# Altium schematic symbol library kmilo17pet-NSC_Interface.SchLib: 1433 symbols (part 29 of 51)
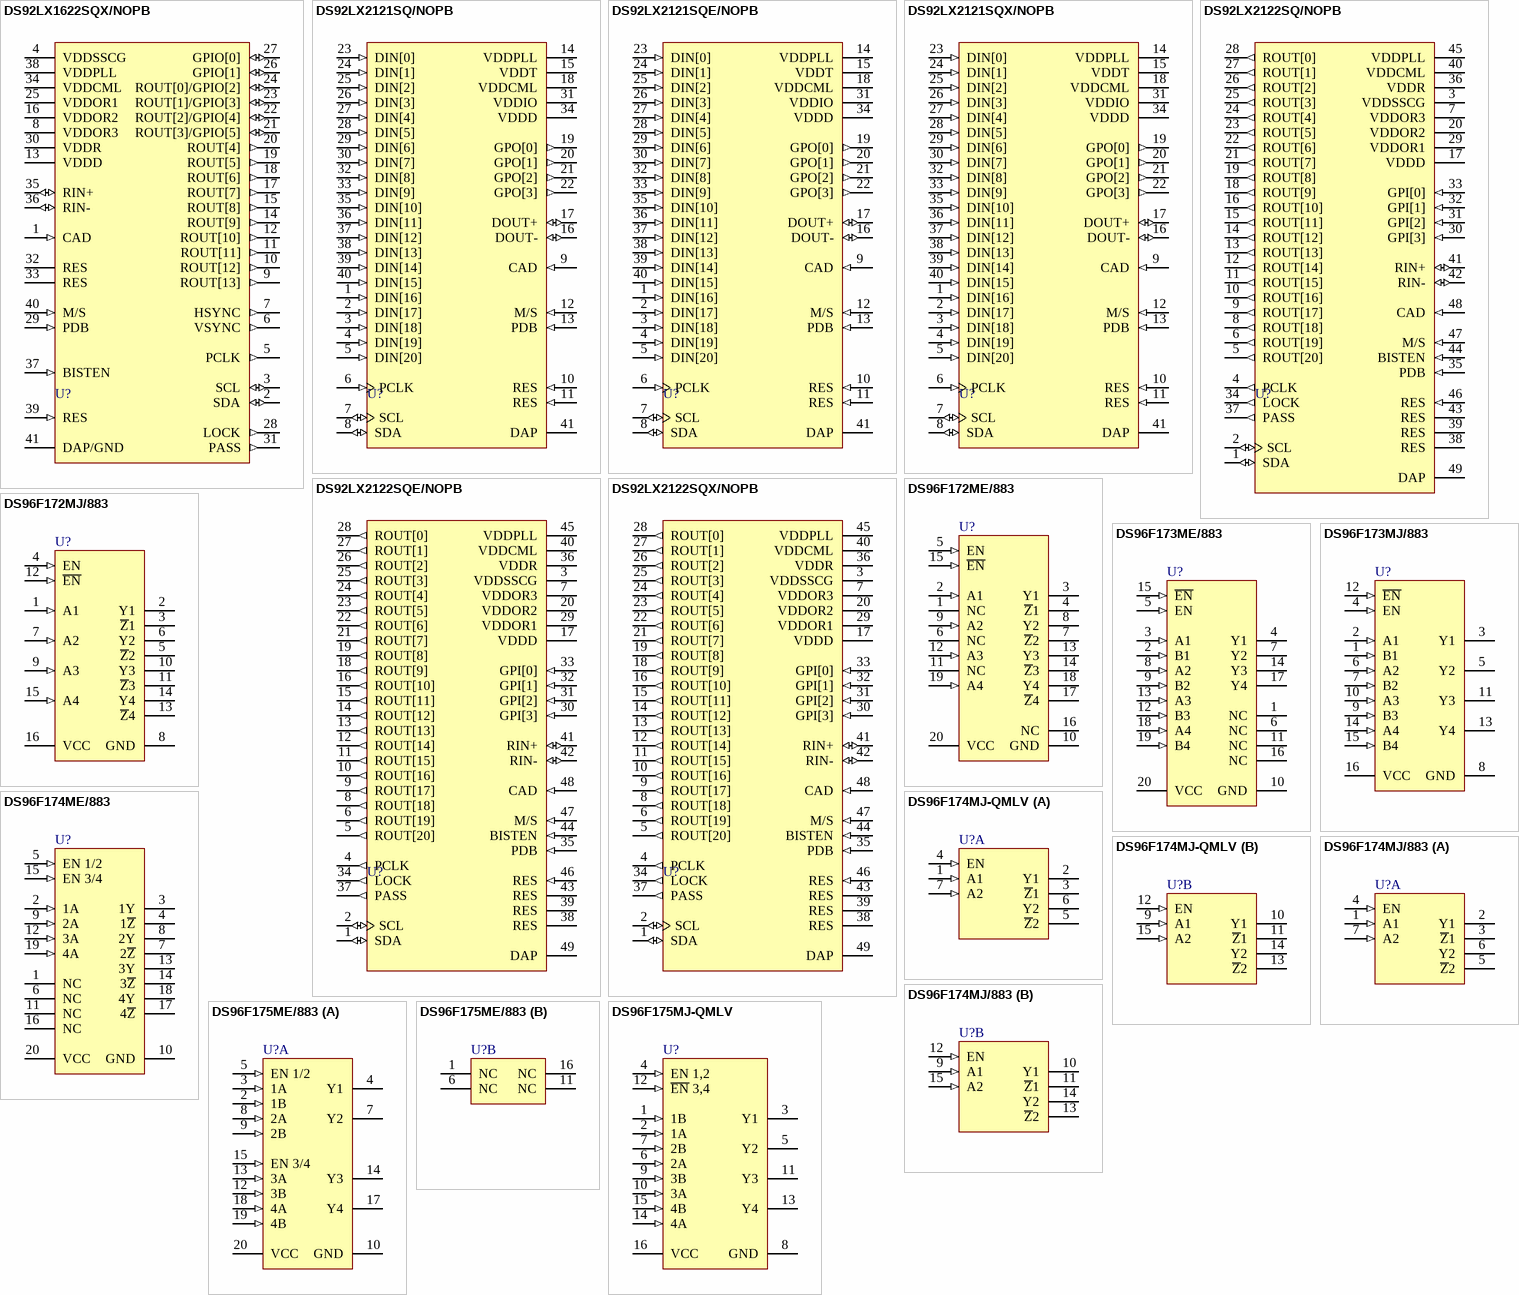
[diagram p152: symbols DS92LX1622SQX/NOPB to DS96F175MJ-QMLV]

## DS96F174MJ-QMLV
designator U?
EIA-485/EIA-422 Quad Differential Drivers, 16-pin CerDIP; PartNumber: DS96F174MJ-QMLV; Manufacturer: National Semiconductor; PowerWise: N; CompType: Interface IC; High-Reliability: Y; DatasheetVersion: Apr-2011; PackageVersion: revL, Sep-1993; PackageReference: J16A; PackageDescription: Cerdip (J), 16 Lead; PinCount: 16; ComponentLink1Description: Manufacturer URL; ComponentLink1URL: http://www.national.com/; ComponentLink2Description: DS96F174M Datasheet; ComponentLink2URL: http://www.national.com/ds/DS/DS96F174MQML.pdf; ComponentLink3Description: DS96F174M Web Page; ComponentLink3URL: http://www.national.com/pf/DS/DS96F174M.html; ComponentLink4Description: J16A Package Page; ComponentLink4URL: http://www.national.com/packaging/folders/j16a.html
footprint J16A (DIP, 16-Leads, Row Spacing 7.62mm, Pitch 2.54mm, Body 19.56x6.73mm)
pins on every part: 8 GND (power) hidden to GND, 16 VCC (power) hidden to VCC
part A pins: 1 A1 (in), 2 Y1 (hiz), 3 ~{Z}1 (hiz), 4 EN (in), 5 ~{Z}2 (hiz), 6 Y2 (hiz), 7 A2 (in)
part B pins: 9 A1 (in), 10 Y1 (hiz), 11 ~{Z}1 (hiz), 12 EN (in), 13 ~{Z}2 (hiz), 14 Y2 (hiz), 15 A2 (in)

## DS96F174MJ/883
designator U?
EIA-485/EIA-422 Quad Differential Driver, 16-pin CerDIP; PartNumber: DS96F174MJ/883; Manufacturer: National Semiconductor; PowerWise: N; CompType: Interface IC; High-Reliability: Y; DatasheetVersion: Apr-2011; PackageVersion: revL, Sep-1993; PackageReference: J16A; PackageDescription: Cerdip (J), 16 Lead; PinCount: 16; ComponentLink1Description: Manufacturer URL; ComponentLink1URL: http://www.national.com/; ComponentLink2Description: DS96F174M Datasheet; ComponentLink2URL: http://www.national.com/ds/DS/DS96F174MQML.pdf; ComponentLink3Description: DS96F174M Web Page; ComponentLink3URL: http://www.national.com/pf/DS/DS96F174M.html; ComponentLink4Description: J16A Package Page; ComponentLink4URL: http://www.national.com/packaging/folders/j16a.html
footprint J16A (DIP, 16-Leads, Row Spacing 7.62mm, Pitch 2.54mm, Body 19.56x6.73mm)
pins on every part: 8 GND (power) hidden to GND, 16 VCC (power) hidden to VCC
part A pins: 1 A1 (in), 2 Y1 (hiz), 3 ~{Z}1 (hiz), 4 EN (in), 5 ~{Z}2 (hiz), 6 Y2 (hiz), 7 A2 (in)
part B pins: 9 A1 (in), 10 Y1 (hiz), 11 ~{Z}1 (hiz), 12 EN (in), 13 ~{Z}2 (hiz), 14 Y2 (hiz), 15 A2 (in)

## DS96F175ME/883
designator U?
EIA-485/EIA-422 Quad Differential Receiver, 20-pin LCC; PartNumber: DS96F175ME/883; Manufacturer: National Semiconductor; PackageTopMarking: NS*ZSSXXYYA*DS96F175ME*/883 Q 5962-*9076601M2A; PowerWise: N; CompType: Interface IC; High-Reliability: Y; DatasheetVersion: Apr-2011; PackageVersion: revF, May-2004; PackageReference: E20A; PackageDescription: Leadless Chip Carrier, Type C, 20 Terminal; RoHS: N; PinCount: 20; Code_JEDEC: MS-004-CB; ComponentLink1Description: Manufacturer URL; ComponentLink1URL: http://www.national.com/; ComponentLink2Description: DS96F175M Datasheet; ComponentLink2URL: http://www.national.com/ds/DS/DS96F175MQML.pdf; ComponentLink3Description: DS96F175M Web Page; ComponentLink3URL: http://www.national.com/pf/DS/DS96F175M.html; ComponentLink4Description: E20A Package Page; ComponentLink4URL: http://www.national.com/packaging/folders/e20a.html
footprint E20A_N (Leadless Chip Carrier, 20-Leads, Body 8.9x8.9mm, Pitch 1.27mm, IPC Medium Density)
footprint E20A_L (Leadless Chip Carrier, 20-Leads, Body 8.9x8.9mm, Pitch 1.27mm, IPC High Density)
footprint E20A_M (Leadless Chip Carrier, 20-Leads, Body 8.9x8.9mm, Pitch 1.27mm, IPC Low Density)
part A pins: 2 1B (in), 3 1A (in), 4 Y1 (hiz), 5 EN 1/2 (in), 7 Y2 (hiz), 8 2A (in), 9 2B (in), 10 GND (power), 12 3B (in), 13 3A (in), 14 Y3 (hiz), 15 EN 3/4 (in), 17 Y4 (hiz), 18 4A (in), 19 4B (in), 20 VCC (power)
part B pins: 1 NC, 6 NC, 11 NC, 16 NC

## DS96F175MJ-QMLV
designator U?
RS-485/RS-422 Quad Differential Receiver, 16-pin CerDIP; PartNumber: DS96F175MJ-QMLV; Manufacturer: National Semiconductor; PowerWise: N; CompType: Interface IC; High-Reliability: Y; DatasheetVersion: Apr-2011; PackageVersion: revL, Sep-1993; PackageReference: J16A; PackageDescription: Cerdip (J), 16 Lead; PinCount: 16; ComponentLink1Description: Manufacturer URL; ComponentLink1URL: http://www.national.com/; ComponentLink2Description: DS96F175M Datasheet; ComponentLink2URL: http://www.national.com/ds/DS/DS96F175MQML.pdf; ComponentLink3Description: DS96F175M Web Page; ComponentLink3URL: http://www.national.com/pf/DS/DS96F175M.html; ComponentLink4Description: J16A Package Page; ComponentLink4URL: http://www.national.com/packaging/folders/j16a.html
footprint J16A (DIP, 16-Leads, Row Spacing 7.62mm, Pitch 2.54mm, Body 19.56x6.73mm)
pins: 1 1B (in), 2 1A (in), 3 Y1 (hiz), 4 EN 1,2 (in), 5 Y2 (hiz), 6 2A (in), 7 2B (in), 8 GND (power), 9 3B (in), 10 3A (in), 11 Y3 (hiz), 12 ~{EN} 3,4 (in), 13 Y4 (hiz), 14 4A (in), 15 4B (in), 16 VCC (power)

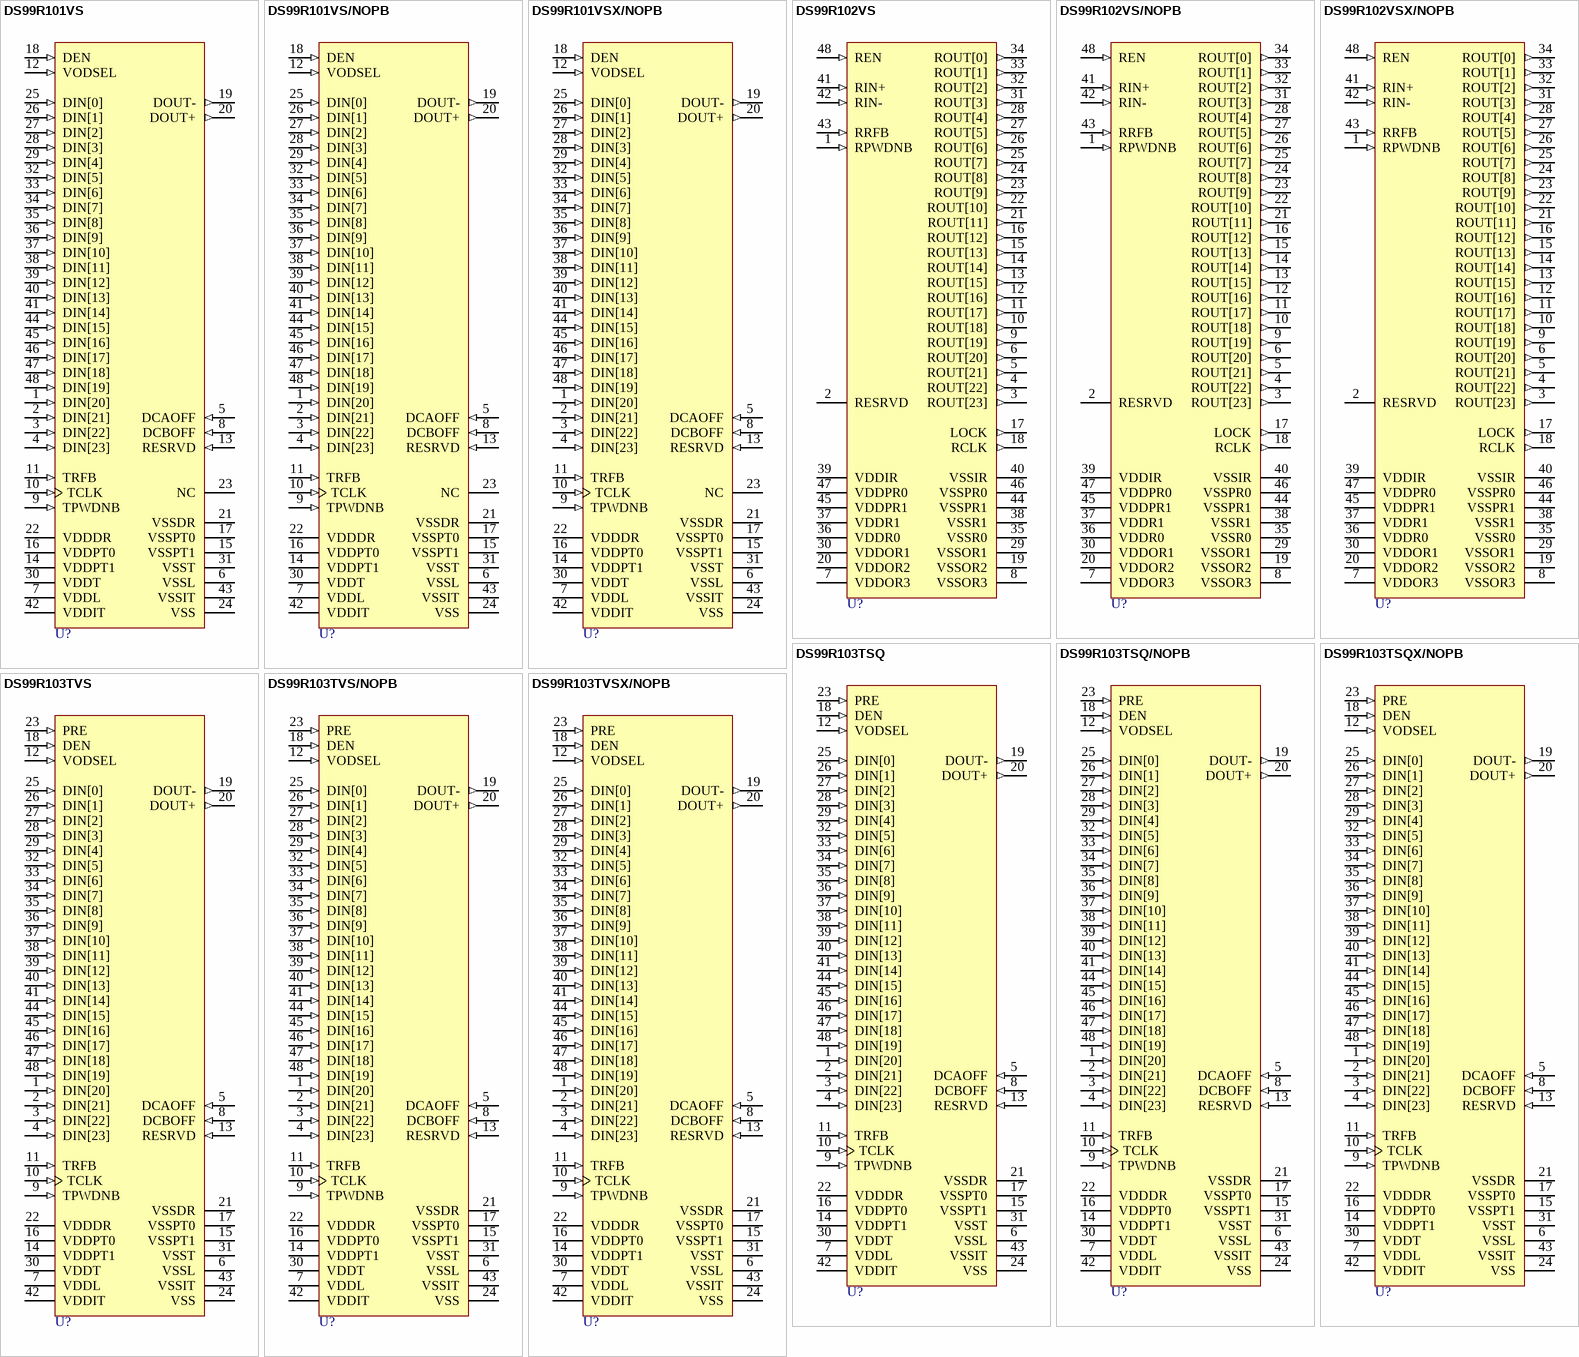
[diagram p76: symbols DS99R101VS to DS99R103TVSX/NOPB]

## DS99R101VS
designator U?
3-40MHz DC-Balanced 24-Bit LVDS Serializer, 48-pin TQFP; PartNumber: DS99R101VS; Manufacturer: National Semiconductor; PackageTopMarking: NSUZXYTT*DS99R101*VS; PowerWise: N; CompType: Interface IC; High-Reliability: Y; DatasheetVersion: Oct-2007; PackageVersion: revA, Apr-2000; PackageReference: VBC48A; PackageDescription: TQFP, Jedec Metric, 7 x 7 x 1mm, 48 Lead, 0.5mm Pitch; RoHS: Y; PinCount: 48; Code_JEDEC: MS-026-ABC; ComponentLink1Description: Manufacturer URL; ComponentLink1URL: http://www.national.com/; ComponentLink2Description: DS99R101 Datasheet; ComponentLink2URL: http://www.national.com/ds/DS/DS99R101.pdf; ComponentLink3Description: DS99R101 Web Page; ComponentLink3URL: http://www.national.com/pf/DS/DS99R101.html; ComponentLink4Description: VBC48A Package Page; ComponentLink4URL: http://www.national.com/packaging/folders/vbc48a.html
footprint VBC48A_N (Thin QFP, 48-Leads, Body 7x7mm, Pitch 0.5mm, IPC Medium Density)
footprint VBC48A_L (Thin QFP, 48-Leads, Body 7x7mm, Pitch 0.5mm, IPC High Density)
footprint VBC48A_M (Thin QFP, 48-Leads, Body 7x7mm, Pitch 0.5mm, IPC Low Density)
pins: 1 DIN[20] (in), 2 DIN[21] (in), 3 DIN[22] (in), 4 DIN[23] (in), 5 DCAOFF (in), 6 VSSL (power), 7 VDDL (power), 8 DCBOFF (in), 9 TPWDNB (in), 10 TCLK (in), 11 TRFB (in), 12 VODSEL (in), 13 RESRVD (in), 14 VDDPT1 (power), 15 VSSPT1 (power), 16 VDDPT0 (power), 17 VSSPT0 (power), 18 DEN (in), 19 DOUT- (out), 20 DOUT+ (out), 21 VSSDR (power), 22 VDDDR (power), 23 NC, 24 VSS (power), 25 DIN[0] (in), 26 DIN[1] (in), 27 DIN[2] (in), 28 DIN[3] (in), 29 DIN[4] (in), 30 VDDT (power), 31 VSST (power), 32 DIN[5] (in), 33 DIN[6] (in), 34 DIN[7] (in), 35 DIN[8] (in), 36 DIN[9] (in), 37 DIN[10] (in), 38 DIN[11] (in), 39 DIN[12] (in), 40 DIN[13] (in), 41 DIN[14] (in), 42 VDDIT (power), 43 VSSIT (power), 44 DIN[15] (in), 45 DIN[16] (in), 46 DIN[17] (in), 47 DIN[18] (in), 48 DIN[19] (in)

## DS99R101VS/NOPB
designator U?
3-40MHz DC-Balanced 24-Bit LVDS Serializer, 48-pin TQFP, Pb-Free; PartNumber: DS99R101VS/NOPB; Manufacturer: National Semiconductor; PackageTopMarking: NSUZXYTT*DS99R101*VS; PowerWise: N; CompType: Interface IC; High-Reliability: Y; DatasheetVersion: Oct-2007; PackageVersion: revA, Apr-2000; PackageReference: VBC48A; PackageDescription: TQFP, Jedec Metric, 7 x 7 x 1mm, 48 Lead, 0.5mm Pitch; RoHS: Y; PinCount: 48; Code_JEDEC: MS-026-ABC; ComponentLink1Description: Manufacturer URL; ComponentLink1URL: http://www.national.com/; ComponentLink2Description: DS99R101 Datasheet; ComponentLink2URL: http://www.national.com/ds/DS/DS99R101.pdf; ComponentLink3Description: DS99R101 Web Page; ComponentLink3URL: http://www.national.com/pf/DS/DS99R101.html; ComponentLink4Description: VBC48A Package Page; ComponentLink4URL: http://www.national.com/packaging/folders/vbc48a.html
footprint VBC48A_N (Thin QFP, 48-Leads, Body 7x7mm, Pitch 0.5mm, IPC Medium Density)
footprint VBC48A_L (Thin QFP, 48-Leads, Body 7x7mm, Pitch 0.5mm, IPC High Density)
footprint VBC48A_M (Thin QFP, 48-Leads, Body 7x7mm, Pitch 0.5mm, IPC Low Density)
pins: 1 DIN[20] (in), 2 DIN[21] (in), 3 DIN[22] (in), 4 DIN[23] (in), 5 DCAOFF (in), 6 VSSL (power), 7 VDDL (power), 8 DCBOFF (in), 9 TPWDNB (in), 10 TCLK (in), 11 TRFB (in), 12 VODSEL (in), 13 RESRVD (in), 14 VDDPT1 (power), 15 VSSPT1 (power), 16 VDDPT0 (power), 17 VSSPT0 (power), 18 DEN (in), 19 DOUT- (out), 20 DOUT+ (out), 21 VSSDR (power), 22 VDDDR (power), 23 NC, 24 VSS (power), 25 DIN[0] (in), 26 DIN[1] (in), 27 DIN[2] (in), 28 DIN[3] (in), 29 DIN[4] (in), 30 VDDT (power), 31 VSST (power), 32 DIN[5] (in), 33 DIN[6] (in), 34 DIN[7] (in), 35 DIN[8] (in), 36 DIN[9] (in), 37 DIN[10] (in), 38 DIN[11] (in), 39 DIN[12] (in), 40 DIN[13] (in), 41 DIN[14] (in), 42 VDDIT (power), 43 VSSIT (power), 44 DIN[15] (in), 45 DIN[16] (in), 46 DIN[17] (in), 47 DIN[18] (in), 48 DIN[19] (in)

## DS99R101VSX/NOPB
designator U?
3-40MHz DC-Balanced 24-Bit LVDS Serializer, 48-pin TQFP, Pb-Free; PartNumber: DS99R101VSX/NOPB; Manufacturer: National Semiconductor; PackageTopMarking: NSUZXYTT*DS99R101*VS; PowerWise: N; CompType: Interface IC; High-Reliability: Y; DatasheetVersion: Oct-2007; PackageVersion: revA, Apr-2000; PackageReference: VBC48A; PackageDescription: TQFP, Jedec Metric, 7 x 7 x 1mm, 48 Lead, 0.5mm Pitch; RoHS: Y; PinCount: 48; Code_JEDEC: MS-026-ABC; ComponentLink1Description: Manufacturer URL; ComponentLink1URL: http://www.national.com/; ComponentLink2Description: DS99R101 Datasheet; ComponentLink2URL: http://www.national.com/ds/DS/DS99R101.pdf; ComponentLink3Description: DS99R101 Web Page; ComponentLink3URL: http://www.national.com/pf/DS/DS99R101.html; ComponentLink4Description: VBC48A Package Page; ComponentLink4URL: http://www.national.com/packaging/folders/vbc48a.html
footprint VBC48A_N (Thin QFP, 48-Leads, Body 7x7mm, Pitch 0.5mm, IPC Medium Density)
footprint VBC48A_L (Thin QFP, 48-Leads, Body 7x7mm, Pitch 0.5mm, IPC High Density)
footprint VBC48A_M (Thin QFP, 48-Leads, Body 7x7mm, Pitch 0.5mm, IPC Low Density)
pins: 1 DIN[20] (in), 2 DIN[21] (in), 3 DIN[22] (in), 4 DIN[23] (in), 5 DCAOFF (in), 6 VSSL (power), 7 VDDL (power), 8 DCBOFF (in), 9 TPWDNB (in), 10 TCLK (in), 11 TRFB (in), 12 VODSEL (in), 13 RESRVD (in), 14 VDDPT1 (power), 15 VSSPT1 (power), 16 VDDPT0 (power), 17 VSSPT0 (power), 18 DEN (in), 19 DOUT- (out), 20 DOUT+ (out), 21 VSSDR (power), 22 VDDDR (power), 23 NC, 24 VSS (power), 25 DIN[0] (in), 26 DIN[1] (in), 27 DIN[2] (in), 28 DIN[3] (in), 29 DIN[4] (in), 30 VDDT (power), 31 VSST (power), 32 DIN[5] (in), 33 DIN[6] (in), 34 DIN[7] (in), 35 DIN[8] (in), 36 DIN[9] (in), 37 DIN[10] (in), 38 DIN[11] (in), 39 DIN[12] (in), 40 DIN[13] (in), 41 DIN[14] (in), 42 VDDIT (power), 43 VSSIT (power), 44 DIN[15] (in), 45 DIN[16] (in), 46 DIN[17] (in), 47 DIN[18] (in), 48 DIN[19] (in)

## DS99R102VS
designator U?
3-40MHz DC-Balanced 24-Bit LVDS Deserializer, 48-pin TQFP; PartNumber: DS99R102VS; Manufacturer: National Semiconductor; PackageTopMarking: NSUZXYTT*DS99R102*VS; PowerWise: N; CompType: Interface IC; High-Reliability: Y; DatasheetVersion: Oct-2007; PackageVersion: revA, Apr-2000; PackageReference: VBC48A; PackageDescription: TQFP, Jedec Metric, 7 x 7 x 1mm, 48 Lead, 0.5mm Pitch; RoHS: Y; PinCount: 48; Code_JEDEC: MS-026-ABC; ComponentLink1Description: Manufacturer URL; ComponentLink1URL: http://www.national.com/; ComponentLink2Description: DS99R102 Datasheet; ComponentLink2URL: http://www.national.com/ds/DS/DS99R102.pdf; ComponentLink3Description: DS99R102 Web Page; ComponentLink3URL: http://www.national.com/pf/DS/DS99R102.html; ComponentLink4Description: VBC48A Package Page; ComponentLink4URL: http://www.national.com/packaging/folders/vbc48a.html
footprint VBC48A_N (Thin QFP, 48-Leads, Body 7x7mm, Pitch 0.5mm, IPC Medium Density)
footprint VBC48A_L (Thin QFP, 48-Leads, Body 7x7mm, Pitch 0.5mm, IPC High Density)
footprint VBC48A_M (Thin QFP, 48-Leads, Body 7x7mm, Pitch 0.5mm, IPC Low Density)
pins: 1 RPWDNB (in), 2 RESRVD, 3 ROUT[23] (out), 4 ROUT[22] (out), 5 ROUT[21] (out), 6 ROUT[20] (out), 7 VDDOR3 (power), 8 VSSOR3 (power), 9 ROUT[19] (out), 10 ROUT[18] (out), 11 ROUT[17] (out), 12 ROUT[16] (out), 13 ROUT[15] (out), 14 ROUT[14] (out), 15 ROUT[13] (out), 16 ROUT[12] (out), 17 LOCK (out), 18 RCLK (out), 19 VSSOR2 (power), 20 VDDOR2 (power), 21 ROUT[11] (out), 22 ROUT[10] (out), 23 ROUT[9] (out), 24 ROUT[8] (out), 25 ROUT[7] (out), 26 ROUT[6] (out), 27 ROUT[5] (out), 28 ROUT[4] (out), 29 VSSOR1 (power), 30 VDDOR1 (power), 31 ROUT[3] (out), 32 ROUT[2] (out), 33 ROUT[1] (out), 34 ROUT[0] (out), 35 VSSR0 (power), 36 VDDR0 (power), 37 VDDR1 (power), 38 VSSR1 (power), 39 VDDIR (power), 40 VSSIR (power), 41 RIN+ (in), 42 RIN- (in), 43 RRFB (in), 44 VSSPR1 (power), 45 VDDPR1 (power), 46 VSSPR0 (power), 47 VDDPR0 (power), 48 REN (in)

## DS99R102VS/NOPB
designator U?
3-40MHz DC-Balanced 24-Bit LVDS Deserializer, 48-pin TQFP, Pb-Free; PartNumber: DS99R102VS/NOPB; Manufacturer: National Semiconductor; PackageTopMarking: NSUZXYTT*DS99R102*VS; PowerWise: N; CompType: Interface IC; High-Reliability: Y; DatasheetVersion: Oct-2007; PackageVersion: revA, Apr-2000; PackageReference: VBC48A; PackageDescription: TQFP, Jedec Metric, 7 x 7 x 1mm, 48 Lead, 0.5mm Pitch; RoHS: Y; PinCount: 48; Code_JEDEC: MS-026-ABC; ComponentLink1Description: Manufacturer URL; ComponentLink1URL: http://www.national.com/; ComponentLink2Description: DS99R102 Datasheet; ComponentLink2URL: http://www.national.com/ds/DS/DS99R102.pdf; ComponentLink3Description: DS99R102 Web Page; ComponentLink3URL: http://www.national.com/pf/DS/DS99R102.html; ComponentLink4Description: VBC48A Package Page; ComponentLink4URL: http://www.national.com/packaging/folders/vbc48a.html
footprint VBC48A_N (Thin QFP, 48-Leads, Body 7x7mm, Pitch 0.5mm, IPC Medium Density)
footprint VBC48A_L (Thin QFP, 48-Leads, Body 7x7mm, Pitch 0.5mm, IPC High Density)
footprint VBC48A_M (Thin QFP, 48-Leads, Body 7x7mm, Pitch 0.5mm, IPC Low Density)
pins: 1 RPWDNB (in), 2 RESRVD, 3 ROUT[23] (out), 4 ROUT[22] (out), 5 ROUT[21] (out), 6 ROUT[20] (out), 7 VDDOR3 (power), 8 VSSOR3 (power), 9 ROUT[19] (out), 10 ROUT[18] (out), 11 ROUT[17] (out), 12 ROUT[16] (out), 13 ROUT[15] (out), 14 ROUT[14] (out), 15 ROUT[13] (out), 16 ROUT[12] (out), 17 LOCK (out), 18 RCLK (out), 19 VSSOR2 (power), 20 VDDOR2 (power), 21 ROUT[11] (out), 22 ROUT[10] (out), 23 ROUT[9] (out), 24 ROUT[8] (out), 25 ROUT[7] (out), 26 ROUT[6] (out), 27 ROUT[5] (out), 28 ROUT[4] (out), 29 VSSOR1 (power), 30 VDDOR1 (power), 31 ROUT[3] (out), 32 ROUT[2] (out), 33 ROUT[1] (out), 34 ROUT[0] (out), 35 VSSR0 (power), 36 VDDR0 (power), 37 VDDR1 (power), 38 VSSR1 (power), 39 VDDIR (power), 40 VSSIR (power), 41 RIN+ (in), 42 RIN- (in), 43 RRFB (in), 44 VSSPR1 (power), 45 VDDPR1 (power), 46 VSSPR0 (power), 47 VDDPR0 (power), 48 REN (in)

## DS99R102VSX/NOPB
designator U?
3-40MHz DC-Balanced 24-Bit LVDS Deserializer, 48-pin TQFP, Pb-Free; PartNumber: DS99R102VSX/NOPB; Manufacturer: National Semiconductor; PackageTopMarking: NSUZXYTT*DS99R102*VS; PowerWise: N; CompType: Interface IC; High-Reliability: Y; DatasheetVersion: Oct-2007; PackageVersion: revA, Apr-2000; PackageReference: VBC48A; PackageDescription: TQFP, Jedec Metric, 7 x 7 x 1mm, 48 Lead, 0.5mm Pitch; RoHS: Y; PinCount: 48; Code_JEDEC: MS-026-ABC; ComponentLink1Description: Manufacturer URL; ComponentLink1URL: http://www.national.com/; ComponentLink2Description: DS99R102 Datasheet; ComponentLink2URL: http://www.national.com/ds/DS/DS99R102.pdf; ComponentLink3Description: DS99R102 Web Page; ComponentLink3URL: http://www.national.com/pf/DS/DS99R102.html; ComponentLink4Description: VBC48A Package Page; ComponentLink4URL: http://www.national.com/packaging/folders/vbc48a.html
footprint VBC48A_N (Thin QFP, 48-Leads, Body 7x7mm, Pitch 0.5mm, IPC Medium Density)
footprint VBC48A_L (Thin QFP, 48-Leads, Body 7x7mm, Pitch 0.5mm, IPC High Density)
footprint VBC48A_M (Thin QFP, 48-Leads, Body 7x7mm, Pitch 0.5mm, IPC Low Density)
pins: 1 RPWDNB (in), 2 RESRVD, 3 ROUT[23] (out), 4 ROUT[22] (out), 5 ROUT[21] (out), 6 ROUT[20] (out), 7 VDDOR3 (power), 8 VSSOR3 (power), 9 ROUT[19] (out), 10 ROUT[18] (out), 11 ROUT[17] (out), 12 ROUT[16] (out), 13 ROUT[15] (out), 14 ROUT[14] (out), 15 ROUT[13] (out), 16 ROUT[12] (out), 17 LOCK (out), 18 RCLK (out), 19 VSSOR2 (power), 20 VDDOR2 (power), 21 ROUT[11] (out), 22 ROUT[10] (out), 23 ROUT[9] (out), 24 ROUT[8] (out), 25 ROUT[7] (out), 26 ROUT[6] (out), 27 ROUT[5] (out), 28 ROUT[4] (out), 29 VSSOR1 (power), 30 VDDOR1 (power), 31 ROUT[3] (out), 32 ROUT[2] (out), 33 ROUT[1] (out), 34 ROUT[0] (out), 35 VSSR0 (power), 36 VDDR0 (power), 37 VDDR1 (power), 38 VSSR1 (power), 39 VDDIR (power), 40 VSSIR (power), 41 RIN+ (in), 42 RIN- (in), 43 RRFB (in), 44 VSSPR1 (power), 45 VDDPR1 (power), 46 VSSPR0 (power), 47 VDDPR0 (power), 48 REN (in)

## DS99R103TSQ
designator U?
3-40MHz DC- Balanced 24-Bit LVDS Serializer, 48-pin LLP; PartNumber: DS99R103TSQ; Manufacturer: National Semiconductor; PackageTopMarking: NS*UZXYTT*DS99R103T; PowerWise: N; CompType: Interface IC; High-Reliability: Y; DatasheetVersion: Oct-2007; PackageVersion: revA, Jul-2004; PackageReference: SQA48D; PackageDescription: LLP, Quad, 7 x 7 x 0.8mm, 48 Lead, 0.5mm Pitch, 4.1 x 4.1 Exposed Pad; RoHS: Y; PinCount: 48; ComponentLink1Description: Manufacturer URL; ComponentLink1URL: http://www.national.com/; ComponentLink2Description: DS99R103 Datasheet; ComponentLink2URL: http://www.national.com/ds/DS/DS99R103.pdf; ComponentLink3Description: DS99R103 Web Page; ComponentLink3URL: http://www.national.com/pf/DS/DS99R103.html; ComponentLink4Description: SQA48D Package Page; ComponentLink4URL: http://www.national.com/packaging/folders/sqa48d.html
footprint SQA48D (QFN, 48-Leads, Body 7x7mm, Pitch 0.5mm, Thermal Pad 4.2x4.2mm, NSC Recommended)
pins: 1 DIN[20] (in), 2 DIN[21] (in), 3 DIN[22] (in), 4 DIN[23] (in), 5 DCAOFF (in), 6 VSSL (power), 7 VDDL (power), 8 DCBOFF (in), 9 TPWDNB (in), 10 TCLK (in), 11 TRFB (in), 12 VODSEL (in), 13 RESRVD (in), 14 VDDPT1 (power), 15 VSSPT1 (power), 16 VDDPT0 (power), 17 VSSPT0 (power), 18 DEN (in), 19 DOUT- (out), 20 DOUT+ (out), 21 VSSDR (power), 22 VDDDR (power), 23 PRE (in), 24 VSS (power), 25 DIN[0] (in), 26 DIN[1] (in), 27 DIN[2] (in), 28 DIN[3] (in), 29 DIN[4] (in), 30 VDDT (power), 31 VSST (power), 32 DIN[5] (in), 33 DIN[6] (in), 34 DIN[7] (in), 35 DIN[8] (in), 36 DIN[9] (in), 37 DIN[10] (in), 38 DIN[11] (in), 39 DIN[12] (in), 40 DIN[13] (in), 41 DIN[14] (in), 42 VDDIT (power), 43 VSSIT (power), 44 DIN[15] (in), 45 DIN[16] (in), 46 DIN[17] (in), 47 DIN[18] (in), 48 DIN[19] (in)

## DS99R103TSQ/NOPB
designator U?
3-40MHz DC- Balanced 24-Bit LVDS Serializer, 48-pin LLP, Pb-Free; PartNumber: DS99R103TSQ/NOPB; Manufacturer: National Semiconductor; PackageTopMarking: NS*UZXYTTE#*DS99R103T; PowerWise: N; CompType: Interface IC; High-Reliability: Y; DatasheetVersion: Oct-2007; PackageVersion: revA, Jul-2004; PackageReference: SQA48D; PackageDescription: LLP, Quad, 7 x 7 x 0.8mm, 48 Lead, 0.5mm Pitch, 4.1 x 4.1 Exposed Pad; RoHS: Y; PinCount: 48; ComponentLink1Description: Manufacturer URL; ComponentLink1URL: http://www.national.com/; ComponentLink2Description: DS99R103 Datasheet; ComponentLink2URL: http://www.national.com/ds/DS/DS99R103.pdf; ComponentLink3Description: DS99R103 Web Page; ComponentLink3URL: http://www.national.com/pf/DS/DS99R103.html; ComponentLink4Description: SQA48D Package Page; ComponentLink4URL: http://www.national.com/packaging/folders/sqa48d.html
footprint SQA48D (QFN, 48-Leads, Body 7x7mm, Pitch 0.5mm, Thermal Pad 4.2x4.2mm, NSC Recommended)
pins: 1 DIN[20] (in), 2 DIN[21] (in), 3 DIN[22] (in), 4 DIN[23] (in), 5 DCAOFF (in), 6 VSSL (power), 7 VDDL (power), 8 DCBOFF (in), 9 TPWDNB (in), 10 TCLK (in), 11 TRFB (in), 12 VODSEL (in), 13 RESRVD (in), 14 VDDPT1 (power), 15 VSSPT1 (power), 16 VDDPT0 (power), 17 VSSPT0 (power), 18 DEN (in), 19 DOUT- (out), 20 DOUT+ (out), 21 VSSDR (power), 22 VDDDR (power), 23 PRE (in), 24 VSS (power), 25 DIN[0] (in), 26 DIN[1] (in), 27 DIN[2] (in), 28 DIN[3] (in), 29 DIN[4] (in), 30 VDDT (power), 31 VSST (power), 32 DIN[5] (in), 33 DIN[6] (in), 34 DIN[7] (in), 35 DIN[8] (in), 36 DIN[9] (in), 37 DIN[10] (in), 38 DIN[11] (in), 39 DIN[12] (in), 40 DIN[13] (in), 41 DIN[14] (in), 42 VDDIT (power), 43 VSSIT (power), 44 DIN[15] (in), 45 DIN[16] (in), 46 DIN[17] (in), 47 DIN[18] (in), 48 DIN[19] (in)

## DS99R103TSQX/NOPB
designator U?
3-40MHz DC- Balanced 24-Bit LVDS Serializer, 48-pin LLP, Pb-Free; PartNumber: DS99R103TSQX/NOPB; Manufacturer: National Semiconductor; PackageTopMarking: NS*UZXYTTE#*DS99R103T; PowerWise: N; CompType: Interface IC; High-Reliability: Y; DatasheetVersion: Oct-2007; PackageVersion: revA, Jul-2004; PackageReference: SQA48D; PackageDescription: LLP, Quad, 7 x 7 x 0.8mm, 48 Lead, 0.5mm Pitch, 4.1 x 4.1 Exposed Pad; RoHS: Y; PinCount: 48; ComponentLink1Description: Manufacturer URL; ComponentLink1URL: http://www.national.com/; ComponentLink2Description: DS99R103 Datasheet; ComponentLink2URL: http://www.national.com/ds/DS/DS99R103.pdf; ComponentLink3Description: DS99R103 Web Page; ComponentLink3URL: http://www.national.com/pf/DS/DS99R103.html; ComponentLink4Description: SQA48D Package Page; ComponentLink4URL: http://www.national.com/packaging/folders/sqa48d.html
footprint SQA48D (QFN, 48-Leads, Body 7x7mm, Pitch 0.5mm, Thermal Pad 4.2x4.2mm, NSC Recommended)
pins: 1 DIN[20] (in), 2 DIN[21] (in), 3 DIN[22] (in), 4 DIN[23] (in), 5 DCAOFF (in), 6 VSSL (power), 7 VDDL (power), 8 DCBOFF (in), 9 TPWDNB (in), 10 TCLK (in), 11 TRFB (in), 12 VODSEL (in), 13 RESRVD (in), 14 VDDPT1 (power), 15 VSSPT1 (power), 16 VDDPT0 (power), 17 VSSPT0 (power), 18 DEN (in), 19 DOUT- (out), 20 DOUT+ (out), 21 VSSDR (power), 22 VDDDR (power), 23 PRE (in), 24 VSS (power), 25 DIN[0] (in), 26 DIN[1] (in), 27 DIN[2] (in), 28 DIN[3] (in), 29 DIN[4] (in), 30 VDDT (power), 31 VSST (power), 32 DIN[5] (in), 33 DIN[6] (in), 34 DIN[7] (in), 35 DIN[8] (in), 36 DIN[9] (in), 37 DIN[10] (in), 38 DIN[11] (in), 39 DIN[12] (in), 40 DIN[13] (in), 41 DIN[14] (in), 42 VDDIT (power), 43 VSSIT (power), 44 DIN[15] (in), 45 DIN[16] (in), 46 DIN[17] (in), 47 DIN[18] (in), 48 DIN[19] (in)

## DS99R103TVS
designator U?
3-40MHz DC- Balanced 24-Bit LVDS Serializer, 48-pin TQFP; PartNumber: DS99R103TVS; Manufacturer: National Semiconductor; PackageTopMarking: NSUZXYTT*DS99R103*TVS; PowerWise: N; CompType: Interface IC; High-Reliability: Y; DatasheetVersion: Oct-2007; PackageVersion: revA, Apr-2000; PackageReference: VBC48A; PackageDescription: TQFP, Jedec Metric, 7 x 7 x 1mm, 48 Lead, 0.5mm Pitch; RoHS: Y; PinCount: 48; Code_JEDEC: MS-026-ABC; ComponentLink1Description: Manufacturer URL; ComponentLink1URL: http://www.national.com/; ComponentLink2Description: DS99R103 Datasheet; ComponentLink2URL: http://www.national.com/ds/DS/DS99R103.pdf; ComponentLink3Description: DS99R103 Web Page; ComponentLink3URL: http://www.national.com/pf/DS/DS99R103.html; ComponentLink4Description: VBC48A Package Page; ComponentLink4URL: http://www.national.com/packaging/folders/vbc48a.html
footprint VBC48A_N (Thin QFP, 48-Leads, Body 7x7mm, Pitch 0.5mm, IPC Medium Density)
footprint VBC48A_L (Thin QFP, 48-Leads, Body 7x7mm, Pitch 0.5mm, IPC High Density)
footprint VBC48A_M (Thin QFP, 48-Leads, Body 7x7mm, Pitch 0.5mm, IPC Low Density)
pins: 1 DIN[20] (in), 2 DIN[21] (in), 3 DIN[22] (in), 4 DIN[23] (in), 5 DCAOFF (in), 6 VSSL (power), 7 VDDL (power), 8 DCBOFF (in), 9 TPWDNB (in), 10 TCLK (in), 11 TRFB (in), 12 VODSEL (in), 13 RESRVD (in), 14 VDDPT1 (power), 15 VSSPT1 (power), 16 VDDPT0 (power), 17 VSSPT0 (power), 18 DEN (in), 19 DOUT- (out), 20 DOUT+ (out), 21 VSSDR (power), 22 VDDDR (power), 23 PRE (in), 24 VSS (power), 25 DIN[0] (in), 26 DIN[1] (in), 27 DIN[2] (in), 28 DIN[3] (in), 29 DIN[4] (in), 30 VDDT (power), 31 VSST (power), 32 DIN[5] (in), 33 DIN[6] (in), 34 DIN[7] (in), 35 DIN[8] (in), 36 DIN[9] (in), 37 DIN[10] (in), 38 DIN[11] (in), 39 DIN[12] (in), 40 DIN[13] (in), 41 DIN[14] (in), 42 VDDIT (power), 43 VSSIT (power), 44 DIN[15] (in), 45 DIN[16] (in), 46 DIN[17] (in), 47 DIN[18] (in), 48 DIN[19] (in)

## DS99R103TVS/NOPB
designator U?
3-40MHz DC- Balanced 24-Bit LVDS Serializer, 48-pin TQFP, Pb-Free; PartNumber: DS99R103TVS/NOPB; Manufacturer: National Semiconductor; PackageTopMarking: NSUZXYTT*DS99R103*TVS; PowerWise: N; CompType: Interface IC; High-Reliability: Y; DatasheetVersion: Oct-2007; PackageVersion: revA, Apr-2000; PackageReference: VBC48A; PackageDescription: TQFP, Jedec Metric, 7 x 7 x 1mm, 48 Lead, 0.5mm Pitch; RoHS: Y; PinCount: 48; Code_JEDEC: MS-026-ABC; ComponentLink1Description: Manufacturer URL; ComponentLink1URL: http://www.national.com/; ComponentLink2Description: DS99R103 Datasheet; ComponentLink2URL: http://www.national.com/ds/DS/DS99R103.pdf; ComponentLink3Description: DS99R103 Web Page; ComponentLink3URL: http://www.national.com/pf/DS/DS99R103.html; ComponentLink4Description: VBC48A Package Page; ComponentLink4URL: http://www.national.com/packaging/folders/vbc48a.html
footprint VBC48A_N (Thin QFP, 48-Leads, Body 7x7mm, Pitch 0.5mm, IPC Medium Density)
footprint VBC48A_L (Thin QFP, 48-Leads, Body 7x7mm, Pitch 0.5mm, IPC High Density)
footprint VBC48A_M (Thin QFP, 48-Leads, Body 7x7mm, Pitch 0.5mm, IPC Low Density)
pins: 1 DIN[20] (in), 2 DIN[21] (in), 3 DIN[22] (in), 4 DIN[23] (in), 5 DCAOFF (in), 6 VSSL (power), 7 VDDL (power), 8 DCBOFF (in), 9 TPWDNB (in), 10 TCLK (in), 11 TRFB (in), 12 VODSEL (in), 13 RESRVD (in), 14 VDDPT1 (power), 15 VSSPT1 (power), 16 VDDPT0 (power), 17 VSSPT0 (power), 18 DEN (in), 19 DOUT- (out), 20 DOUT+ (out), 21 VSSDR (power), 22 VDDDR (power), 23 PRE (in), 24 VSS (power), 25 DIN[0] (in), 26 DIN[1] (in), 27 DIN[2] (in), 28 DIN[3] (in), 29 DIN[4] (in), 30 VDDT (power), 31 VSST (power), 32 DIN[5] (in), 33 DIN[6] (in), 34 DIN[7] (in), 35 DIN[8] (in), 36 DIN[9] (in), 37 DIN[10] (in), 38 DIN[11] (in), 39 DIN[12] (in), 40 DIN[13] (in), 41 DIN[14] (in), 42 VDDIT (power), 43 VSSIT (power), 44 DIN[15] (in), 45 DIN[16] (in), 46 DIN[17] (in), 47 DIN[18] (in), 48 DIN[19] (in)

## DS99R103TVSX/NOPB
designator U?
3-40MHz DC- Balanced 24-Bit LVDS Serializer, 48-pin TQFP, Pb-Free; PartNumber: DS99R103TVSX/NOPB; Manufacturer: National Semiconductor; PackageTopMarking: NSUZXYTT*DS99R103*TVS; PowerWise: N; CompType: Interface IC; High-Reliability: Y; DatasheetVersion: Oct-2007; PackageVersion: revA, Apr-2000; PackageReference: VBC48A; PackageDescription: TQFP, Jedec Metric, 7 x 7 x 1mm, 48 Lead, 0.5mm Pitch; RoHS: Y; PinCount: 48; Code_JEDEC: MS-026-ABC; ComponentLink1Description: Manufacturer URL; ComponentLink1URL: http://www.national.com/; ComponentLink2Description: DS99R103 Datasheet; ComponentLink2URL: http://www.national.com/ds/DS/DS99R103.pdf; ComponentLink3Description: DS99R103 Web Page; ComponentLink3URL: http://www.national.com/pf/DS/DS99R103.html; ComponentLink4Description: VBC48A Package Page; ComponentLink4URL: http://www.national.com/packaging/folders/vbc48a.html
footprint VBC48A_N (Thin QFP, 48-Leads, Body 7x7mm, Pitch 0.5mm, IPC Medium Density)
footprint VBC48A_L (Thin QFP, 48-Leads, Body 7x7mm, Pitch 0.5mm, IPC High Density)
footprint VBC48A_M (Thin QFP, 48-Leads, Body 7x7mm, Pitch 0.5mm, IPC Low Density)
pins: 1 DIN[20] (in), 2 DIN[21] (in), 3 DIN[22] (in), 4 DIN[23] (in), 5 DCAOFF (in), 6 VSSL (power), 7 VDDL (power), 8 DCBOFF (in), 9 TPWDNB (in), 10 TCLK (in), 11 TRFB (in), 12 VODSEL (in), 13 RESRVD (in), 14 VDDPT1 (power), 15 VSSPT1 (power), 16 VDDPT0 (power), 17 VSSPT0 (power), 18 DEN (in), 19 DOUT- (out), 20 DOUT+ (out), 21 VSSDR (power), 22 VDDDR (power), 23 PRE (in), 24 VSS (power), 25 DIN[0] (in), 26 DIN[1] (in), 27 DIN[2] (in), 28 DIN[3] (in), 29 DIN[4] (in), 30 VDDT (power), 31 VSST (power), 32 DIN[5] (in), 33 DIN[6] (in), 34 DIN[7] (in), 35 DIN[8] (in), 36 DIN[9] (in), 37 DIN[10] (in), 38 DIN[11] (in), 39 DIN[12] (in), 40 DIN[13] (in), 41 DIN[14] (in), 42 VDDIT (power), 43 VSSIT (power), 44 DIN[15] (in), 45 DIN[16] (in), 46 DIN[17] (in), 47 DIN[18] (in), 48 DIN[19] (in)

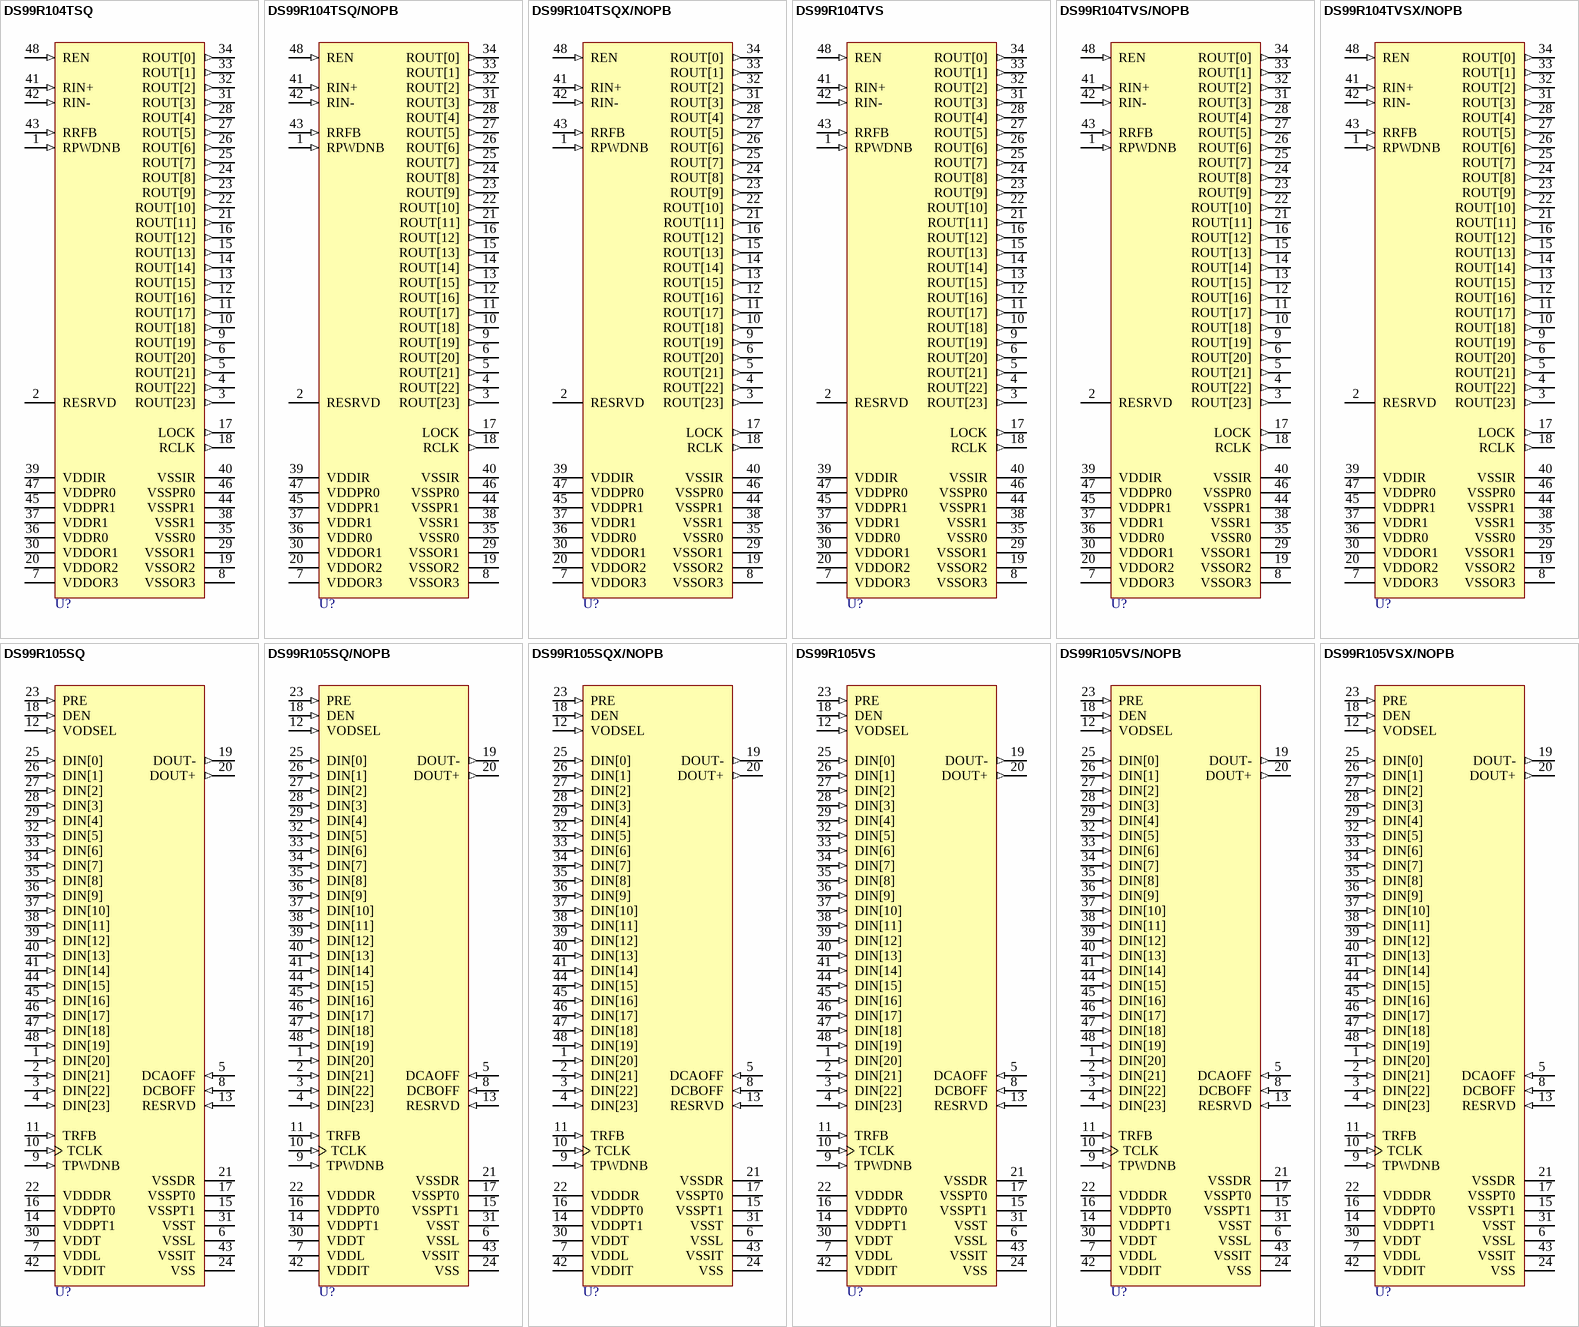
[diagram p77: symbols DS99R104TSQ to DS99R105VSX/NOPB]

## DS99R104TSQ
designator U?
3-40MHz DC- Balanced 24-Bit LVDS Deserializer, 48-pin LLP; PartNumber: DS99R104TSQ; Manufacturer: National Semiconductor; PackageTopMarking: NS*UZXYTT*DS99R104T; PowerWise: N; CompType: Interface IC; High-Reliability: Y; DatasheetVersion: Oct-2007; PackageVersion: revA, Jul-2004; PackageReference: SQA48D; PackageDescription: LLP, Quad, 7 x 7 x 0.8mm, 48 Lead, 0.5mm Pitch, 4.1 x 4.1 Exposed Pad; RoHS: Y; PinCount: 48; ComponentLink1Description: Manufacturer URL; ComponentLink1URL: http://www.national.com/; ComponentLink2Description: DS99R104 Datasheet; ComponentLink2URL: http://www.national.com/ds/DS/DS99R104.pdf; ComponentLink3Description: DS99R104 Web Page; ComponentLink3URL: http://www.national.com/pf/DS/DS99R104.html; ComponentLink4Description: SQA48D Package Page; ComponentLink4URL: http://www.national.com/packaging/folders/sqa48d.html
footprint SQA48D (QFN, 48-Leads, Body 7x7mm, Pitch 0.5mm, Thermal Pad 4.2x4.2mm, NSC Recommended)
pins: 1 RPWDNB (in), 2 RESRVD, 3 ROUT[23] (out), 4 ROUT[22] (out), 5 ROUT[21] (out), 6 ROUT[20] (out), 7 VDDOR3 (power), 8 VSSOR3 (power), 9 ROUT[19] (out), 10 ROUT[18] (out), 11 ROUT[17] (out), 12 ROUT[16] (out), 13 ROUT[15] (out), 14 ROUT[14] (out), 15 ROUT[13] (out), 16 ROUT[12] (out), 17 LOCK (out), 18 RCLK (out), 19 VSSOR2 (power), 20 VDDOR2 (power), 21 ROUT[11] (out), 22 ROUT[10] (out), 23 ROUT[9] (out), 24 ROUT[8] (out), 25 ROUT[7] (out), 26 ROUT[6] (out), 27 ROUT[5] (out), 28 ROUT[4] (out), 29 VSSOR1 (power), 30 VDDOR1 (power), 31 ROUT[3] (out), 32 ROUT[2] (out), 33 ROUT[1] (out), 34 ROUT[0] (out), 35 VSSR0 (power), 36 VDDR0 (power), 37 VDDR1 (power), 38 VSSR1 (power), 39 VDDIR (power), 40 VSSIR (power), 41 RIN+ (in), 42 RIN- (in), 43 RRFB (in), 44 VSSPR1 (power), 45 VDDPR1 (power), 46 VSSPR0 (power), 47 VDDPR0 (power), 48 REN (in)

## DS99R104TSQ/NOPB
designator U?
3-40MHz DC- Balanced 24-Bit LVDS Deserializer, 48-pin LLP, Pb-Free; PartNumber: DS99R104TSQ/NOPB; Manufacturer: National Semiconductor; PackageTopMarking: NS*UZXYTTE#*DS99R104T; PowerWise: N; CompType: Interface IC; High-Reliability: Y; DatasheetVersion: Oct-2007; PackageVersion: revA, Jul-2004; PackageReference: SQA48D; PackageDescription: LLP, Quad, 7 x 7 x 0.8mm, 48 Lead, 0.5mm Pitch, 4.1 x 4.1 Exposed Pad; RoHS: Y; PinCount: 48; ComponentLink1Description: Manufacturer URL; ComponentLink1URL: http://www.national.com/; ComponentLink2Description: DS99R104 Datasheet; ComponentLink2URL: http://www.national.com/ds/DS/DS99R104.pdf; ComponentLink3Description: DS99R104 Web Page; ComponentLink3URL: http://www.national.com/pf/DS/DS99R104.html; ComponentLink4Description: SQA48D Package Page; ComponentLink4URL: http://www.national.com/packaging/folders/sqa48d.html
footprint SQA48D (QFN, 48-Leads, Body 7x7mm, Pitch 0.5mm, Thermal Pad 4.2x4.2mm, NSC Recommended)
pins: 1 RPWDNB (in), 2 RESRVD, 3 ROUT[23] (out), 4 ROUT[22] (out), 5 ROUT[21] (out), 6 ROUT[20] (out), 7 VDDOR3 (power), 8 VSSOR3 (power), 9 ROUT[19] (out), 10 ROUT[18] (out), 11 ROUT[17] (out), 12 ROUT[16] (out), 13 ROUT[15] (out), 14 ROUT[14] (out), 15 ROUT[13] (out), 16 ROUT[12] (out), 17 LOCK (out), 18 RCLK (out), 19 VSSOR2 (power), 20 VDDOR2 (power), 21 ROUT[11] (out), 22 ROUT[10] (out), 23 ROUT[9] (out), 24 ROUT[8] (out), 25 ROUT[7] (out), 26 ROUT[6] (out), 27 ROUT[5] (out), 28 ROUT[4] (out), 29 VSSOR1 (power), 30 VDDOR1 (power), 31 ROUT[3] (out), 32 ROUT[2] (out), 33 ROUT[1] (out), 34 ROUT[0] (out), 35 VSSR0 (power), 36 VDDR0 (power), 37 VDDR1 (power), 38 VSSR1 (power), 39 VDDIR (power), 40 VSSIR (power), 41 RIN+ (in), 42 RIN- (in), 43 RRFB (in), 44 VSSPR1 (power), 45 VDDPR1 (power), 46 VSSPR0 (power), 47 VDDPR0 (power), 48 REN (in)

## DS99R104TSQX/NOPB
designator U?
3-40MHz DC- Balanced 24-Bit LVDS Deserializer, 48-pin LLP, Pb-Free; PartNumber: DS99R104TSQX/NOPB; Manufacturer: National Semiconductor; PackageTopMarking: NS*UZXYTTE#*DS99R104T; PowerWise: N; CompType: Interface IC; High-Reliability: Y; DatasheetVersion: Oct-2007; PackageVersion: revA, Jul-2004; PackageReference: SQA48D; PackageDescription: LLP, Quad, 7 x 7 x 0.8mm, 48 Lead, 0.5mm Pitch, 4.1 x 4.1 Exposed Pad; RoHS: Y; PinCount: 48; ComponentLink1Description: Manufacturer URL; ComponentLink1URL: http://www.national.com/; ComponentLink2Description: DS99R104 Datasheet; ComponentLink2URL: http://www.national.com/ds/DS/DS99R104.pdf; ComponentLink3Description: DS99R104 Web Page; ComponentLink3URL: http://www.national.com/pf/DS/DS99R104.html; ComponentLink4Description: SQA48D Package Page; ComponentLink4URL: http://www.national.com/packaging/folders/sqa48d.html
footprint SQA48D (QFN, 48-Leads, Body 7x7mm, Pitch 0.5mm, Thermal Pad 4.2x4.2mm, NSC Recommended)
pins: 1 RPWDNB (in), 2 RESRVD, 3 ROUT[23] (out), 4 ROUT[22] (out), 5 ROUT[21] (out), 6 ROUT[20] (out), 7 VDDOR3 (power), 8 VSSOR3 (power), 9 ROUT[19] (out), 10 ROUT[18] (out), 11 ROUT[17] (out), 12 ROUT[16] (out), 13 ROUT[15] (out), 14 ROUT[14] (out), 15 ROUT[13] (out), 16 ROUT[12] (out), 17 LOCK (out), 18 RCLK (out), 19 VSSOR2 (power), 20 VDDOR2 (power), 21 ROUT[11] (out), 22 ROUT[10] (out), 23 ROUT[9] (out), 24 ROUT[8] (out), 25 ROUT[7] (out), 26 ROUT[6] (out), 27 ROUT[5] (out), 28 ROUT[4] (out), 29 VSSOR1 (power), 30 VDDOR1 (power), 31 ROUT[3] (out), 32 ROUT[2] (out), 33 ROUT[1] (out), 34 ROUT[0] (out), 35 VSSR0 (power), 36 VDDR0 (power), 37 VDDR1 (power), 38 VSSR1 (power), 39 VDDIR (power), 40 VSSIR (power), 41 RIN+ (in), 42 RIN- (in), 43 RRFB (in), 44 VSSPR1 (power), 45 VDDPR1 (power), 46 VSSPR0 (power), 47 VDDPR0 (power), 48 REN (in)

## DS99R104TVS
designator U?
3-40MHz DC- Balanced 24-Bit LVDS Deserializer, 48-pin TQFP; PartNumber: DS99R104TVS; Manufacturer: National Semiconductor; PackageTopMarking: NSUZXYTT*DS99R104*TVS; PowerWise: N; CompType: Interface IC; High-Reliability: Y; DatasheetVersion: Oct-2007; PackageVersion: revA, Apr-2000; PackageReference: VBC48A; PackageDescription: TQFP, Jedec Metric, 7 x 7 x 1mm, 48 Lead, 0.5mm Pitch; RoHS: Y; PinCount: 48; Code_JEDEC: MS-026-ABC; ComponentLink1Description: Manufacturer URL; ComponentLink1URL: http://www.national.com/; ComponentLink2Description: DS99R104 Datasheet; ComponentLink2URL: http://www.national.com/ds/DS/DS99R104.pdf; ComponentLink3Description: DS99R104 Web Page; ComponentLink3URL: http://www.national.com/pf/DS/DS99R104.html; ComponentLink4Description: VBC48A Package Page; ComponentLink4URL: http://www.national.com/packaging/folders/vbc48a.html
footprint VBC48A_N (Thin QFP, 48-Leads, Body 7x7mm, Pitch 0.5mm, IPC Medium Density)
footprint VBC48A_L (Thin QFP, 48-Leads, Body 7x7mm, Pitch 0.5mm, IPC High Density)
footprint VBC48A_M (Thin QFP, 48-Leads, Body 7x7mm, Pitch 0.5mm, IPC Low Density)
pins: 1 RPWDNB (in), 2 RESRVD, 3 ROUT[23] (out), 4 ROUT[22] (out), 5 ROUT[21] (out), 6 ROUT[20] (out), 7 VDDOR3 (power), 8 VSSOR3 (power), 9 ROUT[19] (out), 10 ROUT[18] (out), 11 ROUT[17] (out), 12 ROUT[16] (out), 13 ROUT[15] (out), 14 ROUT[14] (out), 15 ROUT[13] (out), 16 ROUT[12] (out), 17 LOCK (out), 18 RCLK (out), 19 VSSOR2 (power), 20 VDDOR2 (power), 21 ROUT[11] (out), 22 ROUT[10] (out), 23 ROUT[9] (out), 24 ROUT[8] (out), 25 ROUT[7] (out), 26 ROUT[6] (out), 27 ROUT[5] (out), 28 ROUT[4] (out), 29 VSSOR1 (power), 30 VDDOR1 (power), 31 ROUT[3] (out), 32 ROUT[2] (out), 33 ROUT[1] (out), 34 ROUT[0] (out), 35 VSSR0 (power), 36 VDDR0 (power), 37 VDDR1 (power), 38 VSSR1 (power), 39 VDDIR (power), 40 VSSIR (power), 41 RIN+ (in), 42 RIN- (in), 43 RRFB (in), 44 VSSPR1 (power), 45 VDDPR1 (power), 46 VSSPR0 (power), 47 VDDPR0 (power), 48 REN (in)

## DS99R104TVS/NOPB
designator U?
3-40MHz DC- Balanced 24-Bit LVDS Deserializer, 48-pin TQFP, Pb-Free; PartNumber: DS99R104TVS/NOPB; Manufacturer: National Semiconductor; PackageTopMarking: NSUZXYTT*DS99R104*TVS; PowerWise: N; CompType: Interface IC; High-Reliability: Y; DatasheetVersion: Oct-2007; PackageVersion: revA, Apr-2000; PackageReference: VBC48A; PackageDescription: TQFP, Jedec Metric, 7 x 7 x 1mm, 48 Lead, 0.5mm Pitch; RoHS: Y; PinCount: 48; Code_JEDEC: MS-026-ABC; ComponentLink1Description: Manufacturer URL; ComponentLink1URL: http://www.national.com/; ComponentLink2Description: DS99R104 Datasheet; ComponentLink2URL: http://www.national.com/ds/DS/DS99R104.pdf; ComponentLink3Description: DS99R104 Web Page; ComponentLink3URL: http://www.national.com/pf/DS/DS99R104.html; ComponentLink4Description: VBC48A Package Page; ComponentLink4URL: http://www.national.com/packaging/folders/vbc48a.html
footprint VBC48A_N (Thin QFP, 48-Leads, Body 7x7mm, Pitch 0.5mm, IPC Medium Density)
footprint VBC48A_L (Thin QFP, 48-Leads, Body 7x7mm, Pitch 0.5mm, IPC High Density)
footprint VBC48A_M (Thin QFP, 48-Leads, Body 7x7mm, Pitch 0.5mm, IPC Low Density)
pins: 1 RPWDNB (in), 2 RESRVD, 3 ROUT[23] (out), 4 ROUT[22] (out), 5 ROUT[21] (out), 6 ROUT[20] (out), 7 VDDOR3 (power), 8 VSSOR3 (power), 9 ROUT[19] (out), 10 ROUT[18] (out), 11 ROUT[17] (out), 12 ROUT[16] (out), 13 ROUT[15] (out), 14 ROUT[14] (out), 15 ROUT[13] (out), 16 ROUT[12] (out), 17 LOCK (out), 18 RCLK (out), 19 VSSOR2 (power), 20 VDDOR2 (power), 21 ROUT[11] (out), 22 ROUT[10] (out), 23 ROUT[9] (out), 24 ROUT[8] (out), 25 ROUT[7] (out), 26 ROUT[6] (out), 27 ROUT[5] (out), 28 ROUT[4] (out), 29 VSSOR1 (power), 30 VDDOR1 (power), 31 ROUT[3] (out), 32 ROUT[2] (out), 33 ROUT[1] (out), 34 ROUT[0] (out), 35 VSSR0 (power), 36 VDDR0 (power), 37 VDDR1 (power), 38 VSSR1 (power), 39 VDDIR (power), 40 VSSIR (power), 41 RIN+ (in), 42 RIN- (in), 43 RRFB (in), 44 VSSPR1 (power), 45 VDDPR1 (power), 46 VSSPR0 (power), 47 VDDPR0 (power), 48 REN (in)

## DS99R104TVSX/NOPB
designator U?
3-40MHz DC- Balanced 24-Bit LVDS Deserializer, 48-pin TQFP, Pb-Free; PartNumber: DS99R104TVSX/NOPB; Manufacturer: National Semiconductor; PackageTopMarking: NSUZXYTT*DS99R104*TVS; PowerWise: N; CompType: Interface IC; High-Reliability: Y; DatasheetVersion: Oct-2007; PackageVersion: revA, Apr-2000; PackageReference: VBC48A; PackageDescription: TQFP, Jedec Metric, 7 x 7 x 1mm, 48 Lead, 0.5mm Pitch; RoHS: Y; PinCount: 48; Code_JEDEC: MS-026-ABC; ComponentLink1Description: Manufacturer URL; ComponentLink1URL: http://www.national.com/; ComponentLink2Description: DS99R104 Datasheet; ComponentLink2URL: http://www.national.com/ds/DS/DS99R104.pdf; ComponentLink3Description: DS99R104 Web Page; ComponentLink3URL: http://www.national.com/pf/DS/DS99R104.html; ComponentLink4Description: VBC48A Package Page; ComponentLink4URL: http://www.national.com/packaging/folders/vbc48a.html
footprint VBC48A_N (Thin QFP, 48-Leads, Body 7x7mm, Pitch 0.5mm, IPC Medium Density)
footprint VBC48A_L (Thin QFP, 48-Leads, Body 7x7mm, Pitch 0.5mm, IPC High Density)
footprint VBC48A_M (Thin QFP, 48-Leads, Body 7x7mm, Pitch 0.5mm, IPC Low Density)
pins: 1 RPWDNB (in), 2 RESRVD, 3 ROUT[23] (out), 4 ROUT[22] (out), 5 ROUT[21] (out), 6 ROUT[20] (out), 7 VDDOR3 (power), 8 VSSOR3 (power), 9 ROUT[19] (out), 10 ROUT[18] (out), 11 ROUT[17] (out), 12 ROUT[16] (out), 13 ROUT[15] (out), 14 ROUT[14] (out), 15 ROUT[13] (out), 16 ROUT[12] (out), 17 LOCK (out), 18 RCLK (out), 19 VSSOR2 (power), 20 VDDOR2 (power), 21 ROUT[11] (out), 22 ROUT[10] (out), 23 ROUT[9] (out), 24 ROUT[8] (out), 25 ROUT[7] (out), 26 ROUT[6] (out), 27 ROUT[5] (out), 28 ROUT[4] (out), 29 VSSOR1 (power), 30 VDDOR1 (power), 31 ROUT[3] (out), 32 ROUT[2] (out), 33 ROUT[1] (out), 34 ROUT[0] (out), 35 VSSR0 (power), 36 VDDR0 (power), 37 VDDR1 (power), 38 VSSR1 (power), 39 VDDIR (power), 40 VSSIR (power), 41 RIN+ (in), 42 RIN- (in), 43 RRFB (in), 44 VSSPR1 (power), 45 VDDPR1 (power), 46 VSSPR0 (power), 47 VDDPR0 (power), 48 REN (in)

## DS99R105SQ
designator U?
3-40MHz DC- Balanced 24-Bit LVDS Serializer, 48-pin LLP; PartNumber: DS99R105SQ; Manufacturer: National Semiconductor; PackageTopMarking: NS*UZXYTT*DS99R105; PowerWise: N; CompType: Interface IC; High-Reliability: Y; DatasheetVersion: Oct-2007; PackageVersion: revA, Jul-2004; PackageReference: SQA48D; PackageDescription: LLP, Quad, 7 x 7 x 0.8mm, 48 Lead, 0.5mm Pitch, 4.1 x 4.1 Exposed Pad; RoHS: Y; PinCount: 48; ComponentLink1Description: Manufacturer URL; ComponentLink1URL: http://www.national.com/; ComponentLink2Description: DS99R105 Datasheet; ComponentLink2URL: http://www.national.com/ds/DS/DS99R105.pdf; ComponentLink3Description: DS99R105 Web Page; ComponentLink3URL: http://www.national.com/pf/DS/DS99R105.html; ComponentLink4Description: SQA48D Package Page; ComponentLink4URL: http://www.national.com/packaging/folders/sqa48d.html
footprint SQA48D (QFN, 48-Leads, Body 7x7mm, Pitch 0.5mm, Thermal Pad 4.2x4.2mm, NSC Recommended)
pins: 1 DIN[20] (in), 2 DIN[21] (in), 3 DIN[22] (in), 4 DIN[23] (in), 5 DCAOFF (in), 6 VSSL (power), 7 VDDL (power), 8 DCBOFF (in), 9 TPWDNB (in), 10 TCLK (in), 11 TRFB (in), 12 VODSEL (in), 13 RESRVD (in), 14 VDDPT1 (power), 15 VSSPT1 (power), 16 VDDPT0 (power), 17 VSSPT0 (power), 18 DEN (in), 19 DOUT- (out), 20 DOUT+ (out), 21 VSSDR (power), 22 VDDDR (power), 23 PRE (in), 24 VSS (power), 25 DIN[0] (in), 26 DIN[1] (in), 27 DIN[2] (in), 28 DIN[3] (in), 29 DIN[4] (in), 30 VDDT (power), 31 VSST (power), 32 DIN[5] (in), 33 DIN[6] (in), 34 DIN[7] (in), 35 DIN[8] (in), 36 DIN[9] (in), 37 DIN[10] (in), 38 DIN[11] (in), 39 DIN[12] (in), 40 DIN[13] (in), 41 DIN[14] (in), 42 VDDIT (power), 43 VSSIT (power), 44 DIN[15] (in), 45 DIN[16] (in), 46 DIN[17] (in), 47 DIN[18] (in), 48 DIN[19] (in)

## DS99R105SQ/NOPB
designator U?
3-40MHz DC- Balanced 24-Bit LVDS Serializer, 48-pin LLP, Pb-Free; PartNumber: DS99R105SQ/NOPB; Manufacturer: National Semiconductor; PackageTopMarking: NS*UZXYTTE#*DS99R105; PowerWise: N; CompType: Interface IC; High-Reliability: Y; DatasheetVersion: Oct-2007; PackageVersion: revA, Jul-2004; PackageReference: SQA48D; PackageDescription: LLP, Quad, 7 x 7 x 0.8mm, 48 Lead, 0.5mm Pitch, 4.1 x 4.1 Exposed Pad; RoHS: Y; PinCount: 48; ComponentLink1Description: Manufacturer URL; ComponentLink1URL: http://www.national.com/; ComponentLink2Description: DS99R105 Datasheet; ComponentLink2URL: http://www.national.com/ds/DS/DS99R105.pdf; ComponentLink3Description: DS99R105 Web Page; ComponentLink3URL: http://www.national.com/pf/DS/DS99R105.html; ComponentLink4Description: SQA48D Package Page; ComponentLink4URL: http://www.national.com/packaging/folders/sqa48d.html
footprint SQA48D (QFN, 48-Leads, Body 7x7mm, Pitch 0.5mm, Thermal Pad 4.2x4.2mm, NSC Recommended)
pins: 1 DIN[20] (in), 2 DIN[21] (in), 3 DIN[22] (in), 4 DIN[23] (in), 5 DCAOFF (in), 6 VSSL (power), 7 VDDL (power), 8 DCBOFF (in), 9 TPWDNB (in), 10 TCLK (in), 11 TRFB (in), 12 VODSEL (in), 13 RESRVD (in), 14 VDDPT1 (power), 15 VSSPT1 (power), 16 VDDPT0 (power), 17 VSSPT0 (power), 18 DEN (in), 19 DOUT- (out), 20 DOUT+ (out), 21 VSSDR (power), 22 VDDDR (power), 23 PRE (in), 24 VSS (power), 25 DIN[0] (in), 26 DIN[1] (in), 27 DIN[2] (in), 28 DIN[3] (in), 29 DIN[4] (in), 30 VDDT (power), 31 VSST (power), 32 DIN[5] (in), 33 DIN[6] (in), 34 DIN[7] (in), 35 DIN[8] (in), 36 DIN[9] (in), 37 DIN[10] (in), 38 DIN[11] (in), 39 DIN[12] (in), 40 DIN[13] (in), 41 DIN[14] (in), 42 VDDIT (power), 43 VSSIT (power), 44 DIN[15] (in), 45 DIN[16] (in), 46 DIN[17] (in), 47 DIN[18] (in), 48 DIN[19] (in)

## DS99R105SQX/NOPB
designator U?
3-40MHz DC- Balanced 24-Bit LVDS Serializer, 48-pin LLP, Pb-Free; PartNumber: DS99R105SQX/NOPB; Manufacturer: National Semiconductor; PackageTopMarking: NS*UZXYTTE#*DS99R105; PowerWise: N; CompType: Interface IC; High-Reliability: Y; DatasheetVersion: Oct-2007; PackageVersion: revA, Jul-2004; PackageReference: SQA48D; PackageDescription: LLP, Quad, 7 x 7 x 0.8mm, 48 Lead, 0.5mm Pitch, 4.1 x 4.1 Exposed Pad; RoHS: Y; PinCount: 48; ComponentLink1Description: Manufacturer URL; ComponentLink1URL: http://www.national.com/; ComponentLink2Description: DS99R105 Datasheet; ComponentLink2URL: http://www.national.com/ds/DS/DS99R105.pdf; ComponentLink3Description: DS99R105 Web Page; ComponentLink3URL: http://www.national.com/pf/DS/DS99R105.html; ComponentLink4Description: SQA48D Package Page; ComponentLink4URL: http://www.national.com/packaging/folders/sqa48d.html
footprint SQA48D (QFN, 48-Leads, Body 7x7mm, Pitch 0.5mm, Thermal Pad 4.2x4.2mm, NSC Recommended)
pins: 1 DIN[20] (in), 2 DIN[21] (in), 3 DIN[22] (in), 4 DIN[23] (in), 5 DCAOFF (in), 6 VSSL (power), 7 VDDL (power), 8 DCBOFF (in), 9 TPWDNB (in), 10 TCLK (in), 11 TRFB (in), 12 VODSEL (in), 13 RESRVD (in), 14 VDDPT1 (power), 15 VSSPT1 (power), 16 VDDPT0 (power), 17 VSSPT0 (power), 18 DEN (in), 19 DOUT- (out), 20 DOUT+ (out), 21 VSSDR (power), 22 VDDDR (power), 23 PRE (in), 24 VSS (power), 25 DIN[0] (in), 26 DIN[1] (in), 27 DIN[2] (in), 28 DIN[3] (in), 29 DIN[4] (in), 30 VDDT (power), 31 VSST (power), 32 DIN[5] (in), 33 DIN[6] (in), 34 DIN[7] (in), 35 DIN[8] (in), 36 DIN[9] (in), 37 DIN[10] (in), 38 DIN[11] (in), 39 DIN[12] (in), 40 DIN[13] (in), 41 DIN[14] (in), 42 VDDIT (power), 43 VSSIT (power), 44 DIN[15] (in), 45 DIN[16] (in), 46 DIN[17] (in), 47 DIN[18] (in), 48 DIN[19] (in)

## DS99R105VS
designator U?
3-40MHz DC- Balanced 24-Bit LVDS Serializer, 48-pin TQFP; PartNumber: DS99R105VS; Manufacturer: National Semiconductor; PackageTopMarking: NSUZXYTT*DS99R105*VS; PowerWise: N; CompType: Interface IC; High-Reliability: Y; DatasheetVersion: Oct-2007; PackageVersion: revA, Apr-2000; PackageReference: VBC48A; PackageDescription: TQFP, Jedec Metric, 7 x 7 x 1mm, 48 Lead, 0.5mm Pitch; RoHS: Y; PinCount: 48; Code_JEDEC: MS-026-ABC; ComponentLink1Description: Manufacturer URL; ComponentLink1URL: http://www.national.com/; ComponentLink2Description: DS99R105 Datasheet; ComponentLink2URL: http://www.national.com/ds/DS/DS99R105.pdf; ComponentLink3Description: DS99R105 Web Page; ComponentLink3URL: http://www.national.com/pf/DS/DS99R105.html; ComponentLink4Description: VBC48A Package Page; ComponentLink4URL: http://www.national.com/packaging/folders/vbc48a.html
footprint VBC48A_N (Thin QFP, 48-Leads, Body 7x7mm, Pitch 0.5mm, IPC Medium Density)
footprint VBC48A_L (Thin QFP, 48-Leads, Body 7x7mm, Pitch 0.5mm, IPC High Density)
footprint VBC48A_M (Thin QFP, 48-Leads, Body 7x7mm, Pitch 0.5mm, IPC Low Density)
pins: 1 DIN[20] (in), 2 DIN[21] (in), 3 DIN[22] (in), 4 DIN[23] (in), 5 DCAOFF (in), 6 VSSL (power), 7 VDDL (power), 8 DCBOFF (in), 9 TPWDNB (in), 10 TCLK (in), 11 TRFB (in), 12 VODSEL (in), 13 RESRVD (in), 14 VDDPT1 (power), 15 VSSPT1 (power), 16 VDDPT0 (power), 17 VSSPT0 (power), 18 DEN (in), 19 DOUT- (out), 20 DOUT+ (out), 21 VSSDR (power), 22 VDDDR (power), 23 PRE (in), 24 VSS (power), 25 DIN[0] (in), 26 DIN[1] (in), 27 DIN[2] (in), 28 DIN[3] (in), 29 DIN[4] (in), 30 VDDT (power), 31 VSST (power), 32 DIN[5] (in), 33 DIN[6] (in), 34 DIN[7] (in), 35 DIN[8] (in), 36 DIN[9] (in), 37 DIN[10] (in), 38 DIN[11] (in), 39 DIN[12] (in), 40 DIN[13] (in), 41 DIN[14] (in), 42 VDDIT (power), 43 VSSIT (power), 44 DIN[15] (in), 45 DIN[16] (in), 46 DIN[17] (in), 47 DIN[18] (in), 48 DIN[19] (in)

## DS99R105VS/NOPB
designator U?
3-40MHz DC- Balanced 24-Bit LVDS Serializer, 48-pin TQFP, Pb-Free; PartNumber: DS99R105VS/NOPB; Manufacturer: National Semiconductor; PackageTopMarking: NSUZXYTT*DS99R105*VS; PowerWise: N; CompType: Interface IC; High-Reliability: Y; DatasheetVersion: Oct-2007; PackageVersion: revA, Apr-2000; PackageReference: VBC48A; PackageDescription: TQFP, Jedec Metric, 7 x 7 x 1mm, 48 Lead, 0.5mm Pitch; RoHS: Y; PinCount: 48; Code_JEDEC: MS-026-ABC; ComponentLink1Description: Manufacturer URL; ComponentLink1URL: http://www.national.com/; ComponentLink2Description: DS99R105 Datasheet; ComponentLink2URL: http://www.national.com/ds/DS/DS99R105.pdf; ComponentLink3Description: DS99R105 Web Page; ComponentLink3URL: http://www.national.com/pf/DS/DS99R105.html; ComponentLink4Description: VBC48A Package Page; ComponentLink4URL: http://www.national.com/packaging/folders/vbc48a.html
footprint VBC48A_N (Thin QFP, 48-Leads, Body 7x7mm, Pitch 0.5mm, IPC Medium Density)
footprint VBC48A_L (Thin QFP, 48-Leads, Body 7x7mm, Pitch 0.5mm, IPC High Density)
footprint VBC48A_M (Thin QFP, 48-Leads, Body 7x7mm, Pitch 0.5mm, IPC Low Density)
pins: 1 DIN[20] (in), 2 DIN[21] (in), 3 DIN[22] (in), 4 DIN[23] (in), 5 DCAOFF (in), 6 VSSL (power), 7 VDDL (power), 8 DCBOFF (in), 9 TPWDNB (in), 10 TCLK (in), 11 TRFB (in), 12 VODSEL (in), 13 RESRVD (in), 14 VDDPT1 (power), 15 VSSPT1 (power), 16 VDDPT0 (power), 17 VSSPT0 (power), 18 DEN (in), 19 DOUT- (out), 20 DOUT+ (out), 21 VSSDR (power), 22 VDDDR (power), 23 PRE (in), 24 VSS (power), 25 DIN[0] (in), 26 DIN[1] (in), 27 DIN[2] (in), 28 DIN[3] (in), 29 DIN[4] (in), 30 VDDT (power), 31 VSST (power), 32 DIN[5] (in), 33 DIN[6] (in), 34 DIN[7] (in), 35 DIN[8] (in), 36 DIN[9] (in), 37 DIN[10] (in), 38 DIN[11] (in), 39 DIN[12] (in), 40 DIN[13] (in), 41 DIN[14] (in), 42 VDDIT (power), 43 VSSIT (power), 44 DIN[15] (in), 45 DIN[16] (in), 46 DIN[17] (in), 47 DIN[18] (in), 48 DIN[19] (in)